# Altium footprint library PcbLib1.PcbLib: 27 footprints (part 1 of 2)
Each footprint in its own frame and in the unit in brackets; x right, y up, seen from the top. Pads: shape width x height; smd on the part's side, far side on the other; paste and mask are expansions set on the pad; w line width, h text height; cw(c..) or ccw(c..) is an arc to the next point about the centre after c.
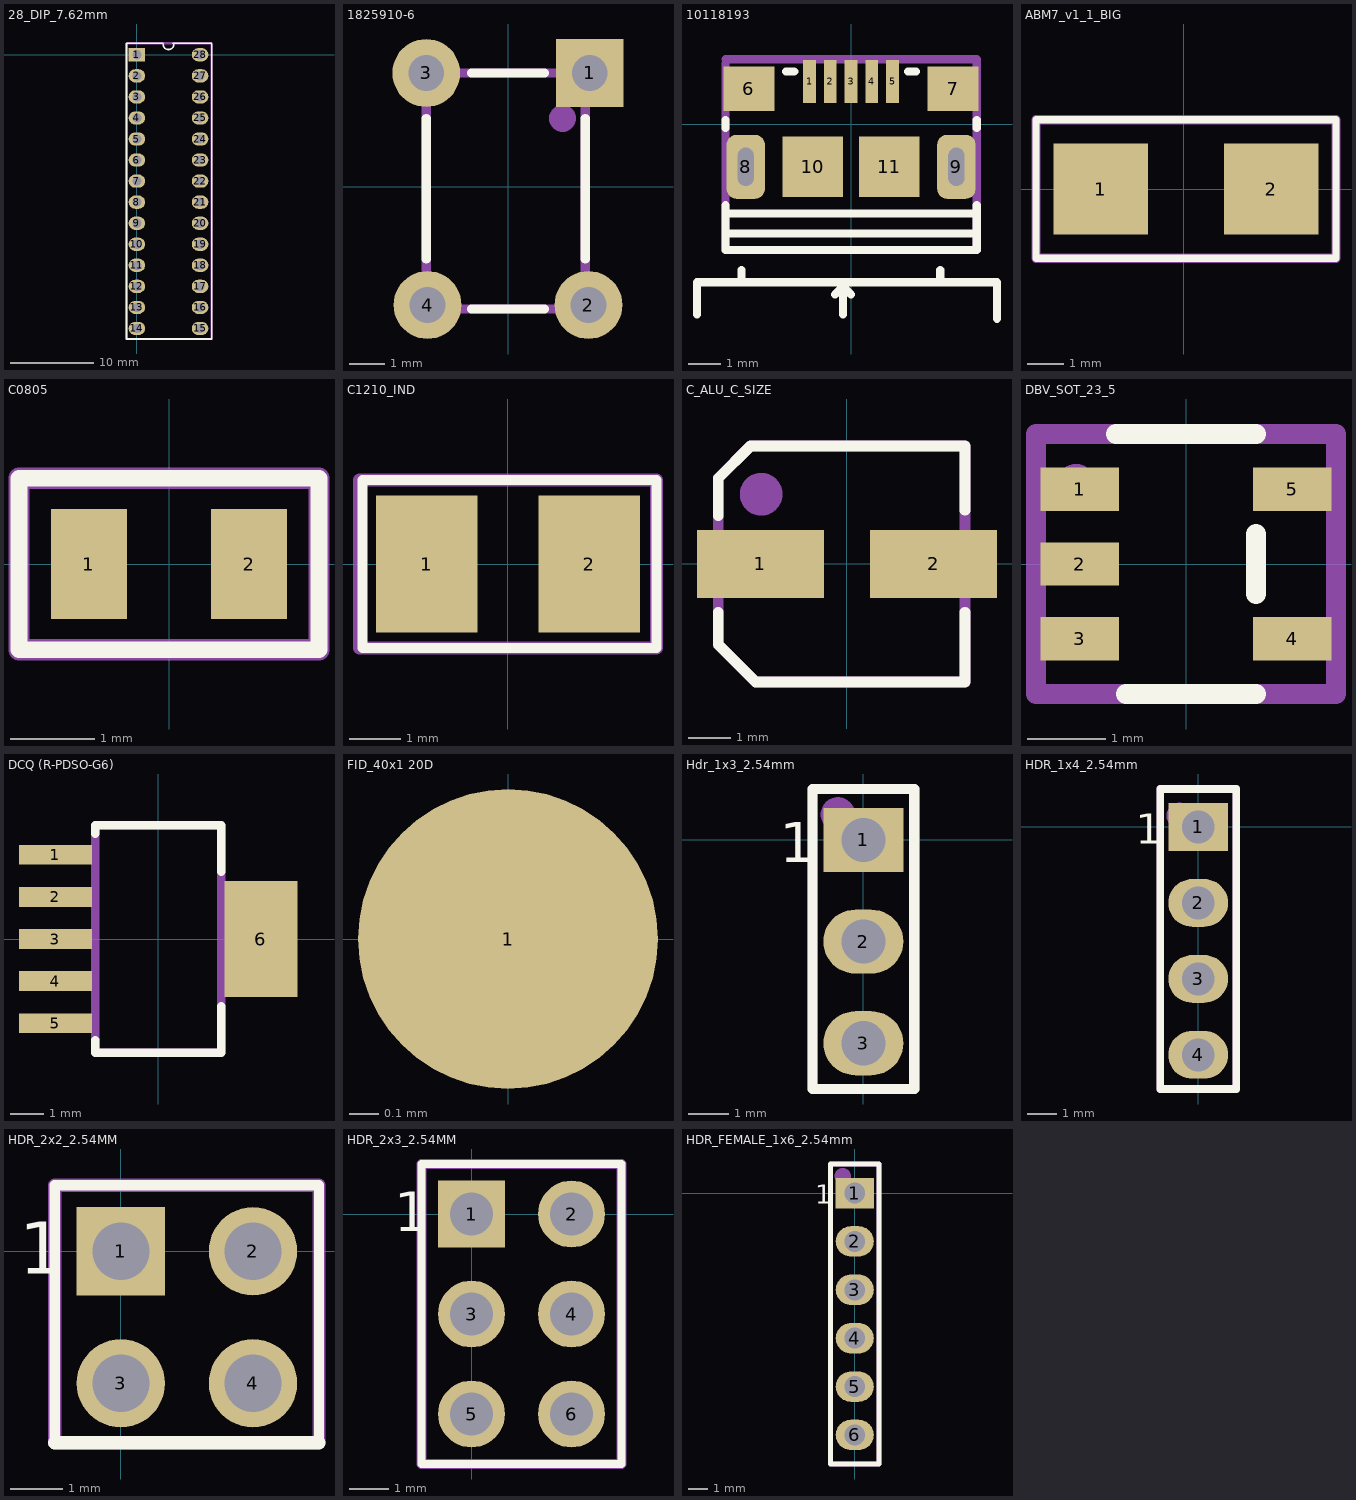
[diagram p0: the footprints below, top view; thin cyan lines are the x and y axes]

## 28_DIP_7.62mm [mm]
pads (28):
  rect 2x1.6 hole 1.1: 1(0,0)
  oval 2x1.6 hole 1.1: 2(0,-2.54) 3(0,-5.08) 4(0,-7.62) 5(0,-10.16) 6(0,-12.7) 7(0,-15.24) 8(0,-17.78) 9(0,-20.32) 10(0,-22.86) 11(0,-25.4) 12(0,-27.94) 13(0,-30.48) 14(0,-33.02) 15(7.62,-33.02) 16(7.62,-30.48) 17(7.62,-27.94) 18(7.62,-25.4) 19(7.62,-22.86) 20(7.62,-20.32) 21(7.62,-17.78) 22(7.62,-15.24) 23(7.62,-12.7) 24(7.62,-10.16) 25(7.62,-7.62) 26(7.62,-5.08) 27(7.62,-2.54) 28(7.62,0)
Top Overlay:
  lines w0.2: 3.175,1.27 ccw(c3.81,1.27) 4.445,1.27 ; 3.175,1.397 -1.247,1.397 -1.247,-1.787 -1.247,-7.9 -1.247,-10.956 -1.247,-12.618 -1.247,-13.449 -1.247,-15.111 -1.247,-15.942 -1.247,-17.605 -1.247,-34.29 1.835,-34.29 5.785,-34.29 ; 4.318,1.397 9.017,1.397 ; 5.658,-34.29 9.017,-34.29 9.017,-31.655 9.017,-28.924 9.017,-27.178 9.017,-22.041 9.017,1.27
Mechanical 29:
  circle w0.5: c-0.038,-0.033 r0.321
  lines w0.254: -1.27,-34.29 -1.27,1.27 -1.143,1.397 9.017,1.397 9.017,-34.29 -1.27,-34.29
  text ".Designator" at 4.2,-14.359 h1.52
3D body "28 pin dip.step": height 7.55, standoff 1.33, extent -0.127,-34.48 7.747,1.46

## 28_DIP_7.62mm_SOCKET [mm]
3D body "dil_socket.stp": height 4.2, standoff -3.17, extent -1.718,-33.468 8.382,2.032

## 1825910-6 [mm]
pads (4):
  rect 1.9x1.9 hole 1: 1(2.286,3.175)
  round 1.9 hole 1: 2(2.25,-3.313) 3(-2.286,3.175) 4(-2.25,-3.313)
Top Overlay:
  lines w0.254: -2.286,-2.032 -2.286,1.905 ; -1.016,-3.429 1.016,-3.429 ; -1.016,3.175 1.016,3.175 ; 2.159,-2.032 2.159,1.905
Mechanical 29:
  circle w0.5: c1.524,1.905 r0.127
  lines w0.254: -2.286,-3.429 2.159,-3.429 2.159,3.175 -1.143,3.175 -2.286,3.175 -2.286,-3.429
3D body "User Library-FSM4JLH(1825910-5).STEP": height 5, standoff -3.51, extent -2.995,-3.989 2.995,3.81

## 10118193 [mm]
pads (11):
  rect 0.4x1.35 smd mask+0.05: 1(-1.3,1.338) 2(-0.65,1.338) 3(0,1.338) 4(0.65,1.338) 5(1.3,1.338)
  rect 1.6x1.4 smd: 6(-3.2,1.112) 7(3.2,1.112)
  rrect50% 1.2x2 hole 0.5 slot 1.2 at 90 deg: 8(-3.3,-1.338) 9(3.3,-1.338)
  rect 1.9x1.9 smd: 10(-1.2,-1.338) 11(1.2,-1.338)
Top Overlay:
  lines w0.254: -4.826,-5.969 -4.826,-4.953 4.572,-4.953 4.572,-6.096 ; -3.937,-3.429 3.937,-3.429 ; -3.937,-2.794 3.937,-2.794 ; -3.937,-2.54 -3.937,-3.937 3.937,-3.937 3.937,-2.54 ; -3.937,-0.127 -3.937,0.127 ; -3.429,-4.953 -3.429,-4.572 ; -2.032,1.651 -1.778,1.651 ; -0.508,-5.334 -0.254,-5.08 ; -0.381,-4.953 -0.254,-5.08 ; -0.254,-5.969 -0.254,-5.08 ; 0,-5.334 -0.254,-5.08 ; 1.778,1.651 2.032,1.651 ; 2.794,-4.953 2.794,-4.572 ; 3.937,-0.127 3.937,0.127
Mechanical 29:
  lines w0.254: -3.937,1.905 -3.937,-3.937 3.937,-3.937 3.937,2.032 -3.937,2.032
  text ".Designator" at -1.905,-1.397 h1.52
3D body "10118193-0001lfc.stp": height 2.87, standoff -0.73, extent -3.95,-3.996 3.907,1.664

## ABM7_v1_1_BIG [mm]
pads (2):
  rect 2.6x2.5 smd: 1(-2.286,0) 2(2.413,0)
Top Overlay:
  lines w0.2: -4.064,-1.905 4.191,-1.905 4.191,1.905 -4.064,1.905 -4.064,0.116 -4.064,-0.116 -4.064,-1.905
Mechanical 29:
  lines w0.254: -4.064,-1.905 4.191,-1.905 4.191,1.905 -4.064,1.905 -4.064,-1.905
  text ".Designator" at -0.635,-0.381 h1.52
3D body: height 1.45, standoff 1.4, extent -1.651,-1.587 1.651,1.587
3D body "ABM7.STEP": height 1.41, standoff 0.01, extent -3.073,-1.778 2.921,1.727

## C0805 [mm]
pads (2):
  rect 0.9x1.3 smd: 1(-0.95,0) 2(0.95,0)
Top Overlay:
  lines w0.2: -1.778,-1.016 1.778,-1.016 1.778,1.016 0.527,1.016 -1.778,1.016 -1.778,0.508 -1.778,-0.508 -1.778,-1.016
Mechanical 29:
  lines w0.254: -1.778,-1.016 1.778,-1.016 1.778,1.016 -1.778,1.016 -1.778,-1.016
  text ".Designator" at -0.916,-0.208 h0.6
3D body "CAPC2012X94N EIA 0805.step": height 0.95, standoff 0.01, extent -1,-0.6 1,0.6
3D body "CAPC2012X94N EIA 0805.step": height 1.45, standoff 0.51, extent -1,-0.6 1,0.6

## C1210_IND [mm]
pads (2):
  rect 2x2.7 smd: 1(-1.6,0) 2(1.6,0)
Top Overlay:
  lines w0.2: -2.861,-1.651 -2.861,0 -2.861,1.651 2.921,1.651 2.921,-1.651 -2.861,-1.651
Mechanical 29:
  lines w0.254: -2.921,-1.651 -2.921,1.651 2.921,1.651 2.921,-1.651 -2.921,-1.651
  text ".Designator" at -2.136,-0.66 h1
3D body: height 2.7, standoff -0.01, extent -1.651,-1.27 -1.397,1.27
3D body: height 2.7, standoff -0.01, extent 1.27,-1.27 1.524,1.27
3D body: height 2.7, standoff -0.01, extent -1.397,-1.27 1.27,1.27

## C_ALU_C_SIZE [mm]
pads (2):
  rect 3x1.6 smd: 1(-2.05,0) 2(2.05,0)
Top Overlay:
  lines w0.254: -3.048,-1.143 -3.048,-1.905 -2.159,-2.794 2.794,-2.794 2.794,-1.143 ; -3.048,1.143 -3.048,2.032 -2.286,2.794 2.794,2.794 2.794,1.27
Mechanical 29:
  circle w0.5: c-2.032,1.651 r0.254
  lines w0.254: -3.048,-1.905 -3.048,1.143 -3.048,2.032 -2.286,2.794 2.794,2.794 2.794,-2.794 -2.159,-2.794 -3.048,-1.905
  text ".Designator" at -0.943,0.125 h1.3
3D body "User Library-capacitor size C.SLDPRT": height 5.41, standoff -0.01, extent -2.979,-2.65 2.921,2.65

## DBV_SOT_23_5 [mm]
pads (5):
  rect 1x0.55 smd: 1(-1.35,0.95) 2(-1.35,0) 3(-1.35,-0.95) 4(1.35,-0.95) 5(1.35,0.95)
Top Overlay:
  lines w0.254: -0.889,1.651 0.889,1.651 ; -0.762,-1.651 0.889,-1.651 ; 0.889,-0.381 0.889,0.381
Mechanical 29:
  circle w0.254: c-1.397,1.016 r0.127
  lines w0.254: -1.905,-1.651 -1.905,1.651 1.905,1.651 1.905,-1.651 -1.905,-1.651
  text ".Designator" at -1.297,-0.843 h0.6
3D body "User Library-TPS79333DBVR.STEP": height 1.61, standoff -0.01, extent -1.514,-1.525 1.515,1.525

## DCQ (R-PDSO-G6) [mm]
pads (6):
  rect 2.2x0.6 smd: 1(-3.1,2.54) 2(-3.1,1.27) 3(-3.1,0) 4(-3.1,-1.27) 5(-3.1,-2.54)
  rect 2.2x3.5 smd: 6(3.1,0)
Top Overlay:
  lines w0.254: -1.905,-3.048 -1.905,-3.429 1.905,-3.429 1.905,-2.032 ; -1.905,3.175 -1.905,3.429 1.905,3.429 1.905,2.032
Mechanical 29:
  lines w0.254: -1.905,3.175 -1.905,3.429 ; -1.905,3.429 1.905,3.429 1.905,-3.429 -1.905,-3.429 -1.905,3.429
  text ".Designator" at -1.294,-0.794 h1.5
3D body "User Library-TPS73701DCQ.STEP": height 1.79, standoff -0.01, extent -3.757,-3.302 3.503,3.248

## FID_40x1 20D [mil]
pads (1):
  round 40 smd paste-40 mask+40: 1(0,0)

## Hdr_1x3_2.54mm [mm]
pads (3):
  rect 2x1.6 hole 1.1: 1(0,0)
  oval 2x1.6 hole 1.1: 2(0,-2.54) 3(0,-5.08)
Top Overlay:
  lines w0.254: -1.27,-4.826 -1.27,-6.223 ; -1.27,-6.223 -1.27,1.27 1.27,1.27 1.27,-6.223 0.381,-6.223 -0.381,-6.223 -1.27,-6.223
  text "1" at -2.086,-0.562 h1
Mechanical 29:
  circle w0.5: c-0.635,0.635 r0.18
  lines w0.254: -1.27,-6.223 -0.381,-6.223 0.381,-6.223 1.27,-6.223 1.27,1.27 -1.27,1.27 -1.27,-6.223
  text ".Designator" at 0.889,-6.096 h1.52
3D body "HDR_1x3_White.stp": height 8.39, standoff -3.11, extent -1.205,-6.077 1.205,1.143

## HDR_1x4_2.54mm [mm]
pads (4):
  rect 2x1.6 hole 1.1: 1(0,0)
  oval 2x1.6 hole 1.1: 2(0,-2.54) 3(0,-5.08) 4(0,-7.62)
Top Overlay:
  lines w0.254: -1.27,-7.874 -1.27,-8.763 ; -1.27,-8.763 -0.381,-8.763 0.381,-8.763 1.27,-8.763 1.27,1.27 0.381,1.27 -0.381,1.27 -1.27,1.27 -1.27,-8.763
  text "1" at -2.086,-0.562 h1
Mechanical 29:
  circle w0.5: c-0.635,0.381 r0.18
  lines w0.254: -1.27,-8.763 -0.381,-8.763 0.381,-8.763 1.27,-8.763 1.27,1.27 -1.27,1.27 -1.27,-8.763
  text ".Designator" at 0.508,-5.334 h1.52
3D body "HDR_1x4_White.stp": height 5.67, standoff -5.83, extent -1.14,-8.627 1.27,1.134

## HDR_2x2_2.54MM [mm]
pads (4):
  rect 1.7x1.7 hole 1.1: 1(0,0)
  round 1.7 hole 1.1: 2(2.54,0) 3(0,-2.54) 4(2.54,-2.54)
Top Overlay:
  lines w0.2: -1.27,-3.683 -1.27,-2.54 -1.27,1.27 -0.574,1.27 0.855,1.27 3.81,1.27 3.81,-3.683
  lines w0.254: -1.27,-3.683 0.254,-3.683 2.286,-3.683 3.81,-3.683
  text "1" at -1.959,-0.435 h1
Mechanical 29:
  circle w0.508: c-0.127,0.127 r0.127
  lines w0.254: -1.27,-3.683 3.81,-3.683 3.81,1.27 -1.27,1.27 -1.27,-3.683
  text ".Designator" at 1.016,-3.429 h1.52
3D body "961204-6404-XX.stp": height 8.01, standoff -3.29, extent -1.27,-3.707 3.81,1.294

## HDR_2x3_2.54MM [mm]
pads (6):
  rect 1.7x1.7 hole 1.1: 1(0,0)
  round 1.7 hole 1.1: 2(2.54,0) 3(0,-2.54) 4(2.54,-2.54) 5(0,-5.08) 6(2.54,-5.08)
Top Overlay:
  lines w0.2: -1.27,-6.35 -1.27,-2.54 -1.27,1.27 -0.574,1.27 0.855,1.27 3.81,1.27 3.81,-6.35 0.855,-6.35 -1.27,-6.35
  text "1" at -1.959,-0.435 h1
Mechanical 29:
  circle w0.508: c-0.127,0.127 r0.127
  lines w0.254: -1.27,-6.35 3.81,-6.35 3.81,1.27 -1.27,1.27 -1.27,-6.35
  text ".Designator" at 0.762,-5.334 h1.52
3D body "961206-6404-XX.stp": height 8.01, standoff -3.29, extent -1.19,-6.35 3.81,1.27

## HDR_FEMALE_1x6_2.54mm [mm]
pads (6):
  rect 2x1.6 hole 1.1: 1(0,0)
  oval 2x1.6 hole 1.1: 2(0,-2.54) 3(0,-5.08) 4(0,-7.62) 5(0,-10.16) 6(0,-12.7)
Top Overlay:
  lines w0.254: -1.27,-13.208 -1.27,-14.224 -0.381,-14.224 0.381,-14.224 1.27,-14.224 1.27,1.524 -1.27,1.524 -1.27,-13.843 -1.27,-1.016
  text "1" at -2.086,-0.562 h1
Mechanical 29:
  circle w0.5: c-0.635,0.889 r0.18
  lines w0.254: -1.27,-14.224 -0.381,-14.224 0.381,-14.224 1.27,-14.224 1.27,1.524 -1.27,1.524 -1.27,-14.224
  text ".Designator" at 0.762,-13.208 h1.52
3D body "m20-7820646_asm.stp": height 8.51, standoff -2.99, extent -1.143,-14.224 1.357,1.416